# Altium schematic symbol library HV_BMS_SCH_LIB.SchLib: 13 symbols
Pins are listed as number, name and electrical type; pins without a type are passive.

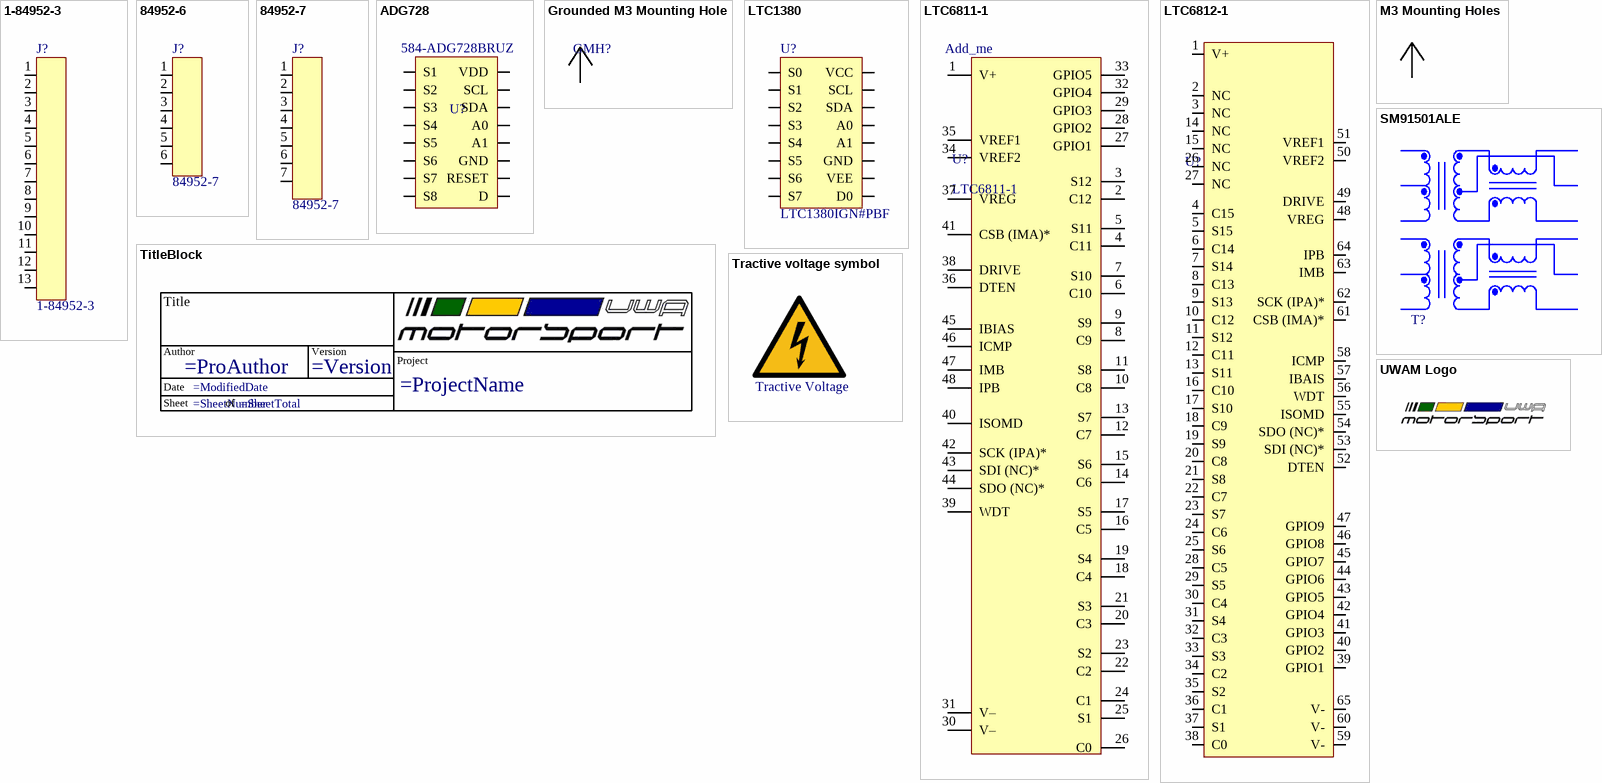
[diagram p0: symbols 1-84952-3 to UWAM Logo]

## 1-84952-3
designator J?
FFC & FPC Connectors 1MM FPC HORZ.BTTM CONT.ASS.13P; Manufacturer: TE Connectivity; Manufacturer Part Number: 1-84952-2; Number of Contacts: 12; Current Rating: 1A; Voltage Rating: 200V; Gender: Female; Shielding: Unshielded; Connector Type: Receptacle,Connector,Socket; Wire/Cable Type: Flat Flex; Connector System: Flex-to-Board; Mating Alignment: Yes (With); PCB Mount Alignment: No (Without); PCB Mount Retention: With; PCB Mounting Orientation: Right Angle; Contact Location: Bottom; Pitch: 0.039inch; Plating Thickness: 2um; RoHS: Yes; Category: FFC / FPC; Stock 1: 4044; Pricing 1: 1=1.09000, 10=0.86200, 50=0.86200, 100=0.74900, 1000=0.67400, 10000=0.48700 (USD); Mount: Surface Mount; Contact Plating: Tin,Bright; Contact Material: Bronze; Housing Color: Natural; Housing Material: Polymer; Min Operating Temperature: -40°C; Max Operating Temperature: 85°C; Number of Rows: 1; Package Quantity: 1200; Packaging: Tape and Reel; Termination: SMD/SMT; Orientation: Right Angle; Number of Positions: 12; Sealable: No (Without); Shrouded: Yes (With); Contact Current Rating: 1A; Series: FPC; Max Voltage Rating (AC): 200V; Length: 0.7843inch; Width: 0.2575inch; Height: 2.56mm; Depth: 6.54mm; Radiation Hardening: No; ELV: Compliant; REACH SVHC: No SVHC; Flammability Rating: UL94 V-0; RoHS Compliant: Yes; ComponentLink1URL: https://datasheet.ciiva.com/1446/586796-1446720.pdf?src-supplier=Farnell; ComponentLink1Description: https://datasheet.ciiva.com/1446/586796-1446720.pdf?src-supplier=Farnell; ComponentLink2URL: https://datasheet.ciiva.com/669/eng-cd-84952-a4-669441.pdf?src-supplier=Digi-Key; ComponentLink2Description: https://datasheet.ciiva.com/669/eng-cd-84952-a4-669441.pdf?src-supplier=Digi-Key; ComponentLink3URL: https://datasheet.ciiva.com/669/eng-cd-84952-a4-669442.pdf?src-supplier=Digi-Key; ComponentLink3Description: https://datasheet.ciiva.com/669/eng-cd-84952-a4-669442.pdf?src-supplier=Digi-Key; ComponentLink4URL: https://datasheet.ciiva.com/669/eng-cd-84952-a4-669443.pdf?src-supplier=Digi-Key; ComponentLink4Description: https://datasheet.ciiva.com/669/eng-cd-84952-a4-669443.pdf?src-supplier=Digi-Key; Supplier 1: Mouser; ComponentLink5URL: https://datasheet.ciiva.com/672/eng-cd-84952-a4-672673.pdf?src-supplier=Digi-Key; ComponentLink5Description: https://datasheet.ciiva.com/672/eng-cd-84952-a4-672673.pdf?src-supplier=Digi-Key; Supplier Part Number 1: 571-1-84952-3
footprint 1-84952-3
pins: 1, 2, 3, 4, 5, 6, 7, 8, 9, 10, 11, 12, 13

## 84952-6
designator J?, comment 84952-7
FFC / FPC Board Connector, 84952 Series, Surface Mount, Receptacle, 6, Bottom, 1 mm; Manufacturer: TE Connectivity; Manufacturer Part Number: 84952-6; Body Plating: Tin; Current Rating: 1A; Number of Contacts: 6; Voltage Rating: 200V; Gender: Female; Connector Type: Receptacle,Connector,Socket; Wire/Cable Type: Flat Flex; Connector System: Flex-to-Board; Mating Alignment: Yes (With); PCB Mount Alignment: No (Without); PCB Mount Retention: With; PCB Mounting Orientation: Right Angle; Shielding: Unshielded; Pitch: 0.039inch; Plating Thickness: 2um; Pin Diameter: 0.2mm; Supplier 1: RSComponents; RoHS: Yes; Category: FFC / FPC; Stock 1: 390; Pricing 1: 10=0.74200, 50=0.63100, 100=0.55700, 250=0.48200, 500=0.44500 (USD); Mount: Surface Mount; Contact Plating: Tin,Bright; Contact Material: Bronze; Housing Color: Natural; Housing Material: Polymer; Color: Natural; Material: Thermoplastic; Min Operating Temperature: -40°C; Max Operating Temperature: 85°C; Packaging: Tape and Reel; Package Quantity: 1500; Termination: SMD/SMT; Number of Rows: 1; Orientation: Right Angle; Number of Positions: 6; Series: 84952; Sealable: No (Without); Shrouded: Yes (With); Contact Current Rating: 1A; Contact Location: Bottom; Max Voltage Rating (AC): 200V; Length: 13.92mm; Width: 0.2575inch; Height: 2.56mm; Depth: 6.54mm; Lead Pitch: 1mm; Radiation Hardening: No; Flammability Rating: UL94 V-0; REACH SVHC: No SVHC; ELV: Compliant; ComponentLink1URL: https://datasheet.ciiva.com/11745/0900766b806b3b1b-11745221.pdf?src-supplier=RSComponents; ComponentLink1Description: https://datasheet.ciiva.com/11745/0900766b806b3b1b-11745221.pdf?src-supplier=RSComponents; ComponentLink2URL: https://datasheet.ciiva.com/669/eng-cd-84952-a4-669094.pdf?src-supplier=Digi-Key; ComponentLink2Description: https://datasheet.ciiva.com/669/eng-cd-84952-a4-669094.pdf?src-supplier=Digi-Key; ComponentLink3URL: https://datasheet.ciiva.com/669/eng-cd-84952-a4-669095.pdf?src-supplier=Digi-Key; ComponentLink3Description: https://datasheet.ciiva.com/669/eng-cd-84952-a4-669095.pdf?src-supplier=Digi-Key; ComponentLink4URL: https://datasheet.ciiva.com/669/eng-cd-84952-a4-669096.pdf?src-supplier=Digi-Key; ComponentLink4Description: https://datasheet.ciiva.com/669/eng-cd-84952-a4-669096.pdf?src-supplier=Digi-Key; ComponentLink5URL: https://datasheet.ciiva.com/30235/eng-ds-1-1773440-6-0506-30235994.pdf?src-supplier=Onlinecomponents.com; ComponentLink5Description: https://datasheet.ciiva.com/30235/eng-ds-1-1773440-6-0506-30235994.pdf?src-supplier=Onlinecomponents.com; ComponentLink6URL: https://datasheet.ciiva.com/46396/315889-46396855.pdf?src-supplier=Element14; ComponentLink6Description: https://datasheet.ciiva.com/46396/315889-46396855.pdf?src-supplier=Element14; ComponentLink7URL: https://datasheet.ciiva.com/26934/getdatasheetpartid-475296-26934629.pdf?src-supplier=Verical; ComponentLink7Description: https://datasheet.ciiva.com/26934/getdatasheetpartid-475296-26934629.pdf?src-supplier=Verical; Supplier Part Number 1: 5351583
footprint 84952-6 (FPC Connector)
pins: 1, 2, 3, 4, 5, 6

## 84952-7
designator J?
1MM FPC HORZ.BTTM CONT.ASS.7P; Manufacturer: TE Connectivity; Current Rating: 1A; Number of Contacts: 7; Shielding: Unshielded; Voltage Rating: 200V; Gender: Receptacle; Connector Type: Receptacle,Connector,Socket; Wire/Cable Type: Flat Flex; Connector System: Flex-to-Board; Mating Alignment: Yes (With); PCB Mount Alignment: No (Without); PCB Mount Retention: With; PCB Mounting Orientation: Right Angle; Pitch: 0.039inch; Plating Thickness: 2um; Supplier 1: Mouser; Manufacturer Part Number: 84952-7; RoHS: Yes; Category: FFC / FPC; Stock 1: 8503; Pricing 1: 1=1.51000, 10=1.24000, 50=1.24000, 100=1.18000, 1000=0.84000, 10000=0.80000 (USD); Mount: Surface Mount; Contact Plating: Tin,Bright; Contact Material: Bronze; Housing Color: Natural; Housing Material: Polymer; Min Operating Temperature: -40°C; Max Operating Temperature: 85°C; Packaging: Tape and Reel; Package Quantity: 1500; Number of Rows: 1; Termination: SMD/SMT; Orientation: Right Angle; Series: FPC; Number of Positions: 7; Sealable: No (Without); Shrouded: Yes (With); Contact Current Rating: 1A; Max Voltage Rating (AC): 200V; Length: 0.5866inch; Width: 0.2575inch; Height: 2.56mm; Depth: 6.54mm; Radiation Hardening: No; ELV: Compliant; REACH SVHC: Unknown; ComponentLink1URL: https://datasheet.ciiva.com/669/eng-cd-84952-a4-669431.pdf?src-supplier=Digi-Key; ComponentLink1Description: https://datasheet.ciiva.com/669/eng-cd-84952-a4-669431.pdf?src-supplier=Digi-Key; ComponentLink2URL: https://datasheet.ciiva.com/669/eng-cd-84952-a4-669432.pdf?src-supplier=Digi-Key; ComponentLink2Description: https://datasheet.ciiva.com/669/eng-cd-84952-a4-669432.pdf?src-supplier=Digi-Key; ComponentLink3URL: https://datasheet.ciiva.com/669/eng-cd-84952-a4-669433.pdf?src-supplier=Digi-Key; ComponentLink3Description: https://datasheet.ciiva.com/669/eng-cd-84952-a4-669433.pdf?src-supplier=Digi-Key; ComponentLink4URL: https://datasheet.ciiva.com/10034/eng-ds-1-1773440-6-0506-10034341.pdf?src-supplier=Avnet; ComponentLink4Description: https://datasheet.ciiva.com/10034/eng-ds-1-1773440-6-0506-10034341.pdf?src-supplier=Avnet; ComponentLink5URL: https://datasheet.ciiva.com/30183/eng-ds-1-1773440-6-0506-30183306.pdf?src-supplier=Onlinecomponents.com; ComponentLink5Description: https://datasheet.ciiva.com/30183/eng-ds-1-1773440-6-0506-30183306.pdf?src-supplier=Onlinecomponents.com; ComponentLink6URL: https://datasheet.ciiva.com/8066/1393703-8066903.pdf?src-supplier=Element14; ComponentLink6Description: https://datasheet.ciiva.com/8066/1393703-8066903.pdf?src-supplier=Element14; Supplier Part Number 1: 571-84952-7
footprint 84952-7 (FPC Connector)
pins: 1, 2, 3, 4, 5, 6, 7

## ADG728
designator U?  Supplier Part Number 1: 584-ADG728BRUZ  (hidden comment: ADG728)
Analog Multiplexer Single 8:1 16-Pin TSSOP Tube; Manufacturer: Analog Devices; Manufacturer Part Number: ADG728BRUZ; Min Supply Voltage: 2.7V; Max Supply Voltage: 5.5V; On-State Resistance: 4.5R; Throw Configuration: DPST; Number of Circuits: 1; -3db Bandwidth: 65MHz; Max Power Dissipation: 100uW; Number of Inputs: 8; Max Supply Current: 20uA; Interface: Serial,2-Wire; Operating Supply Current: 10uA; Turn-Off Delay Time: 85ns; Turn-On Delay Time: 95ns; High Level Output Current: 120mA; Drain to Source Resistance: 2.5R; Supplier 1: Mouser; RoHS: Yes; Category: Decoders and Multiplexers; Stock 1: 392; Pricing 1: 1=6.74000, 10=6.06000, 50=5.73000, 100=4.96000, 1000=3.59000, 10000=3.59000 (USD); Case/Package: TSSOP; Number of Pins: 16; Contact Plating: Tin,Matte; Min Operating Temperature: -40°C; Max Operating Temperature: 85°C; Packaging: Rail/Tube; Package Quantity: 96; Series: -; Number of Channels: 1; Number of Outputs: 1; Bandwidth: 65MHz; Number of Bits: 8; Nominal Supply Current: 20uA; Supply Current: 20uA; Length: 5mm; Width: 4.4mm; Height: 1.05mm; Radiation Hardening: No; Lead Free: Contains Lead; RoHS Compliant: Yes; REACH SVHC: No SVHC; ComponentLink1URL: https://datasheet.ciiva.com/1171/1610644-1171108.pdf?src-supplier=Element14; ComponentLink1Description: https://datasheet.ciiva.com/1171/1610644-1171108.pdf?src-supplier=Element14; ComponentLink2URL: https://datasheet.ciiva.com/5797/adg728-729-5797207.pdf?src-supplier=Farnell; ComponentLink2Description: https://datasheet.ciiva.com/5797/adg728-729-5797207.pdf?src-supplier=Farnell; ComponentLink3URL: https://datasheet.ciiva.com/1668/adg728-729-1668904.pdf?src-supplier=Digi-Key; ComponentLink3Description: https://datasheet.ciiva.com/1668/adg728-729-1668904.pdf?src-supplier=Digi-Key; ComponentLink4URL: https://datasheet.ciiva.com/2978/adg728-729-2978667.pdf?src-supplier=Avnet; ComponentLink4Description: https://datasheet.ciiva.com/2978/adg728-729-2978667.pdf?src-supplier=Avnet; ComponentLink5URL: https://datasheet.ciiva.com/7986/adg728-729-7986413.pdf?src-supplier=Element14; ComponentLink5Description: https://datasheet.ciiva.com/7986/adg728-729-7986413.pdf?src-supplier=Element14; ComponentLink6URL: https://datasheet.ciiva.com/48708/001248036-da-01-en-ic-mux-demux-8x1-adg728bruz-tssop-16-adi-48708636.pdf?src-supplier=Conrad; ComponentLink6Description: https://datasheet.ciiva.com/48708/001248036-da-01-en-ic-mux-demux-8x1-adg728bruz-tssop-16-adi-48708636.pdf?src-supplier=Conrad
footprint ADG728
pins: 1 SCL, 2 RESET, 3 SDA, 4 S1, 5 S2, 6 S3, 7 S4, 8 D, 9 S8, 10 S7, 11 S6, 12 S5, 13 VDD, 14 GND, 15 A1, 16 A0

## Grounded M3 Mounting Hole
designator GMH?, comment Grounded M3  (value not drawn)
M3 Mounting hole
footprint M3 Mounting Hole
footprint GND M3 MH
pins: 1

## LTC1380
designator U?, comment LTC1380IGN#PBF
LINEAR TECHNOLOGY - LTC1380IGN#PBF - MUX, 8X1, 600OHM, +/-5V, 16SSOP; Manufacturer: Analog Devices / Linear Technology; Min Dual Supply Voltage: 1.35V; Max Supply Voltage: 10V; Number of Inputs: 8; Number of Outputs: 1; Min Supply Voltage: 2.7V; Dual Supply Voltage: 3V; Max Dual Supply Voltage: 5V; Logic Function: Multiplexer; On-State Resistance: 400R; Operating Supply Current: 10uA; Power Dissipation: 500mW; Supply Type: Dual; Throw Configuration: DPST; Supplier 1: Mouser; Manufacturer Part Number: LTC1380IGN#PBF; RoHS: Yes; Category: Interface ICs; Stock 1: 1416; Pricing 1: 1=10.07000, 10=9.10000, 50=8.67000, 100=7.52000, 1000=5.98000, 10000=5.98000 (USD); Mount: Surface Mount; Case/Package: SSOP; Number of Pins: 16; Min Operating Temperature: -40°C; Max Operating Temperature: 85°C; Package Quantity: 100; Packaging: Rail/Tube; Number of Channels: 1; Nominal Supply Current: 10uA; Number of Circuits: 1; Series: -; REACH SVHC: No SVHC; Lead Free: Lead Free; RoHS Compliant: Yes; ComponentLink1URL: https://datasheet.ciiva.com/22646/1575676-22646619.pdf?src-supplier=Farnell; ComponentLink1Description: https://datasheet.ciiva.com/22646/1575676-22646619.pdf?src-supplier=Farnell; ComponentLink2URL: https://datasheet.ciiva.com/1679/3150-1679202.pdf?src-supplier=Digi-Key; ComponentLink2Description: https://datasheet.ciiva.com/1679/3150-1679202.pdf?src-supplier=Digi-Key; ComponentLink3URL: https://datasheet.ciiva.com/22633/1575676-22633317.pdf?src-supplier=Element14; ComponentLink3Description: https://datasheet.ciiva.com/22633/1575676-22633317.pdf?src-supplier=Element14; Supplier Part Number 1: 584-LTC1380IGN#PBF
footprint 16-Lead SSOP - GN
pins: 1 S0, 2 S1, 3 S2, 4 S3, 5 S4, 6 S5, 7 S6, 8 S7, 9 D0, 10 VEE, 11 GND, 12 A1, 13 A0, 14 SDA, 15 SCL, 16 VCC

## LTC6811-1
designator U?  Supplier Part Number 1: Add_me
IC MONITOR BATT STACK 48SSOP; Manufacturer: Analog Devices / Linear Technology; Supplier 1: Mouser; Manufacturer Part Number: LTC6811-1; RoHS: Yes; Category: Battery Management; Case/Package: SSOP; RoHS Compliant: Yes; ComponentLink1URL: http://www.linear.com/docs/55980?src-supplier=Digi-Key; ComponentLink1Description: http://www.linear.com/docs/55980?src-supplier=Digi-Key
footprint 48-Lead SSOP
pins: 1 V+, 2 C12, 3 S12, 4 C11, 5 S11, 6 C10, 7 S10, 8 C9, 9 S9, 10 C8, 11 S8, 12 C7, 13 S7, 14 C6, 15 S6, 16 C5, 17 S5, 18 C4, 19 S4, 20 C3, 21 S3, 22 C2, 23 S2, 24 C1, 25 S1, 26 C0, 27 GPIO1, 28 GPIO2, 29 GPIO3, 30 V–, 31 V–, 32 GPIO4, 33 GPIO5, 34 VREF2, 35 VREF1, 36 DTEN, 37 VREG, 38 DRIVE, 39 WDT, 40 ISOMD, 41 CSB (IMA)*, 42 SCK (IPA)*, 43 SDI (NC)*, 44 SDO (NC)*, 45 IBIAS, 46 ICMP, 47 IMB, 48 IPB

## LTC6812-1
designator U?  (value not drawn)
Multicell battery stack monitor that measures up to 15 series connected battery cells
footprint 64-eLQFP
pins: 1 V+, 2 NC, 3 NC, 4 C15, 5 S15, 6 C14, 7 S14, 8 C13, 9 S13, 10 C12, 11 S12, 12 C11, 13 S11, 14 NC, 15 NC, 16 C10, 17 S10, 18 C9, 19 S9, 20 C8, 21 S8, 22 C7, 23 S7, 24 C6, 25 S6, 26 NC, 27 NC, 28 C5, 29 S5, 30 C4, 31 S4, 32 C3, 33 S3, 34 C2, 35 S2, 36 C1, 37 S1, 38 C0, 39 GPIO1, 40 GPIO2, 41 GPIO3, 42 GPIO4, 43 GPIO5, 44 GPIO6, 45 GPIO7, 46 GPIO8, 47 GPIO9, 48 VREG, 49 DRIVE, 50 VREF2, 51 VREF1, 52 DTEN, 53 SDI (NC)*, 54 SDO (NC)*, 55 ISOMD, 56 WDT, 57 IBAIS, 58 ICMP, 59 V-, 60 V-, 61 CSB (IMA)*, 62 SCK (IPA)*, 63 IMB, 64 IPB, 65 V-

## M3 Mounting Holes
designator MH?  (value not drawn)  (mechanical)
footprint M3 MH

## SM91501ALE
designator T?  (value not drawn)
BMS XFORMER 2-CH 1600V AECQ +125; Manufacturer: Bourns; Inductance: 150uH; Turns Ratio: 1:1; Supplier 1: Mouser; Manufacturer Part Number: SM91501ALE; RoHS: No; Stock 1: 566; Pricing 1: 1=5.20000, 10=4.21000, 50=3.14000, 100=3.05000, 1000=2.78000, 10000=2.78000 (USD); Mount: Surface Mount; Min Operating Temperature: -40°C; Max Operating Temperature: 125°C; Packaging: Cut Tape; ComponentLink1URL: https://www.bourns.com/docs/product-datasheets/sm91501al.pdf?src-supplier=Digi-Key; ComponentLink1Description: https://www.bourns.com/docs/product-datasheets/sm91501al.pdf?src-supplier=Digi-Key; Supplier Part Number 1: 652-SM91501ALE
footprint SM91501ALE (2 Channel pulse transformer with choke)
pins: 1, 2, 3, 4, 5, 6, 7, 8, 9, 10, 11, 12

## TitleBlock
designator *  (value not drawn)  (graphical)
text: Title; Author; Version; Project; Date; Sheet; of

## Tractive voltage symbol
designator ?  (value not drawn)  (graphical)
footprint Tractive voltage
text: Tractive Voltage

## UWAM Logo
designator *  (value not drawn)  (graphical)
footprint UWAM Logo